# Altium footprint library lab2.PcbLib: 18 footprints (part 1 of 2)
Each footprint in its own frame and in the unit in brackets; x right, y up, seen from the top. Pads: shape width x height; smd on the part's side, far side on the other; paste and mask are expansions set on the pad; w line width, h text height; cw(c..) or ccw(c..) is an arc to the next point about the centre after c.
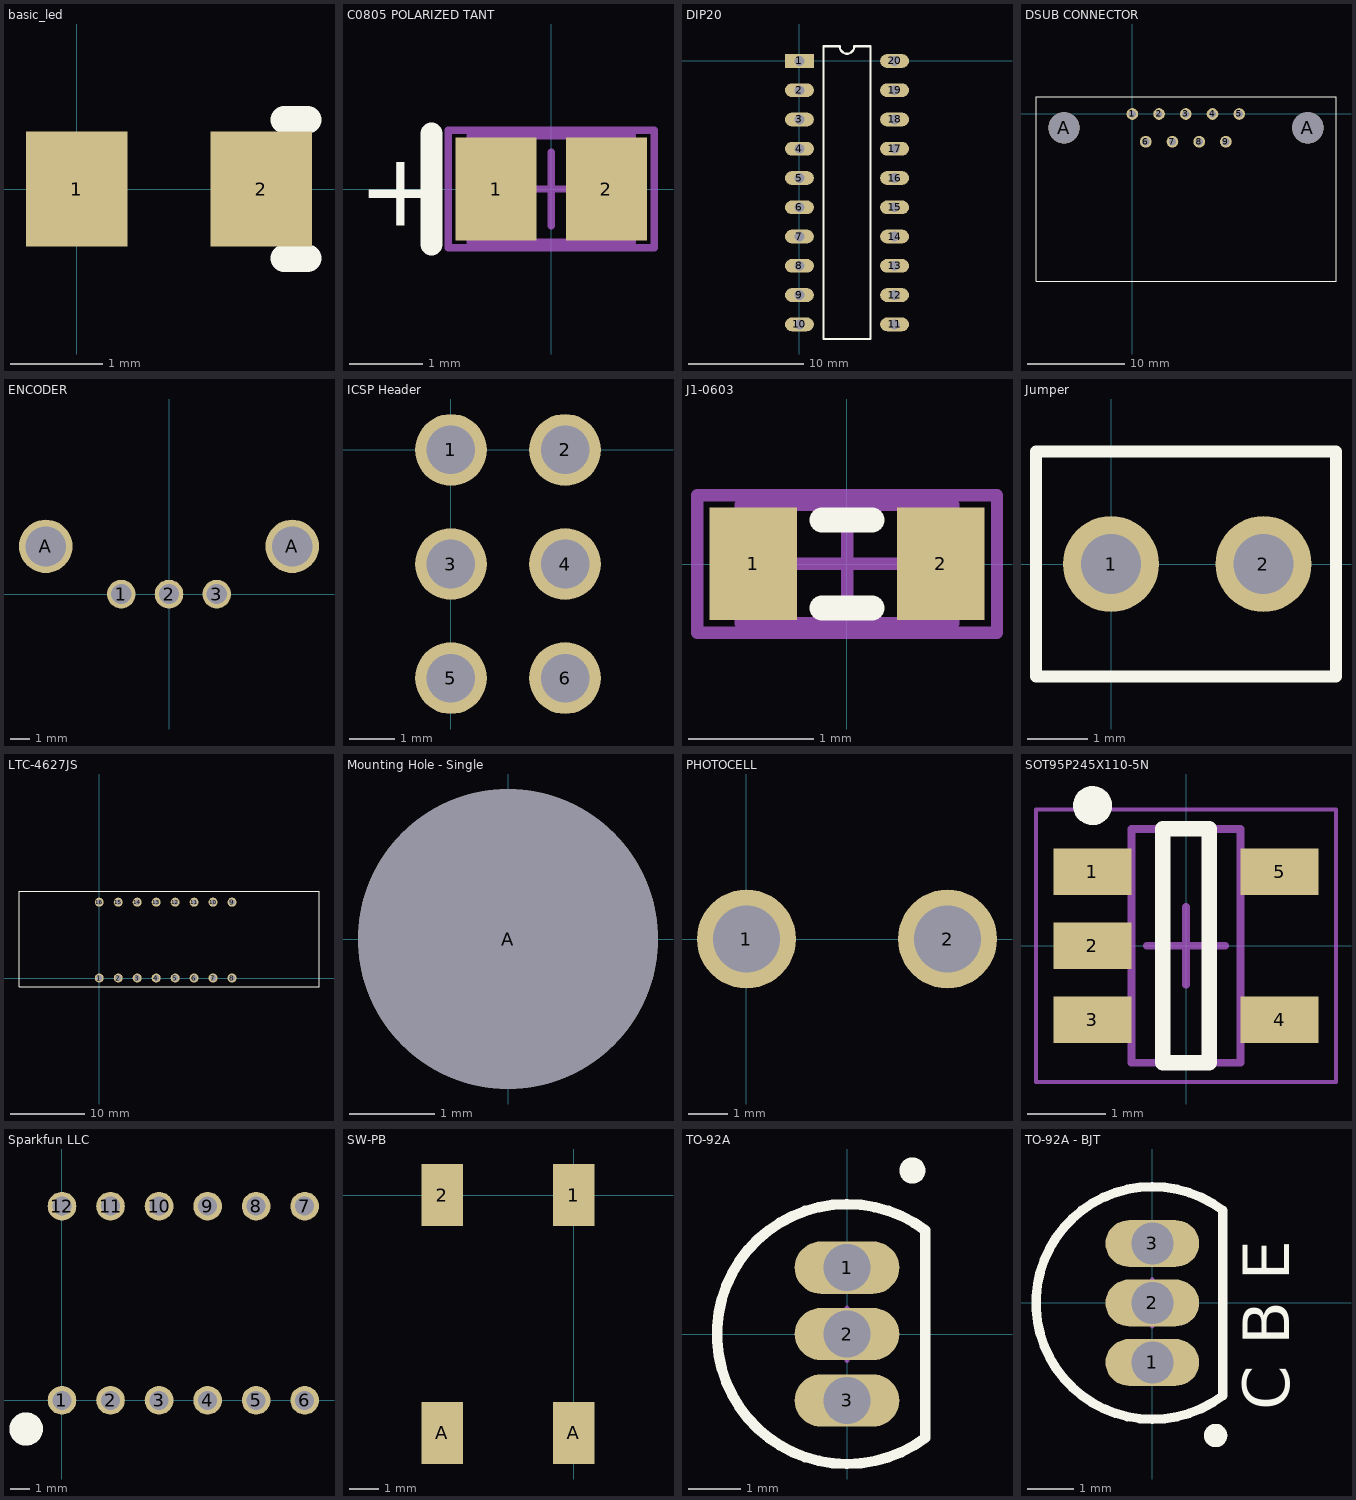
[diagram p0: the footprints below, top view; thin cyan lines are the x and y axes]

## basic_led [mm]
pads (2):
  rect 1.1x1.25 smd: 1(0,0) 2(2,0)
Top Overlay:
  lines w0.3: 2.25,-0.75 2.5,-0.75 ; 2.25,0.75 2.5,0.75
3D body "AP2012.STEP": height 1.1, standoff 0, extent 0,-0.625 2,0.625

## C0805 POLARIZED TANT [mm] "Chip Capacitor, Body 2.0x1.3mm, IPC High Density"
height 1.4
pads (2):
  rect 1.1x1.4 smd: 1(-0.75,0) 2(0.75,0)
Top Overlay:
  lines w0.3: -1.625,-0.75 -1.625,0.75
  text "+" at -2.625,-0.5 h1
Mechanical 13:
  lines w0.1: -1.1,-0.725 -1.1,0.725 1.1,0.725 1.1,-0.725 -1.1,-0.725
Mechanical 15:
  lines w0.1: -0.5,0 0.5,0 ; 0,-0.5 0,0.5 ; -1.4,-0.8 -1.4,0.8 1.4,0.8 1.4,-0.8 -1.4,-0.8
3D body: height 1.4, standoff 0, extent -1.1,-0.725 1.1,0.725

## DIP20 [mm]
pads (20):
  rect 2.5x1.2 hole 0.85: 1(0,0)
  oval 2.5x1.2 hole 0.85: 2(0,-2.54) 3(0,-5.08) 4(0,-7.62) 5(0,-10.16) 6(0,-12.7) 7(0,-15.24) 8(0,-17.78) 9(0,-20.32) 10(0,-22.86) 11(8.26,-22.86) 12(8.26,-20.32) 13(8.26,-17.78) 14(8.26,-15.24) 15(8.26,-12.7) 16(8.26,-10.16) 17(8.26,-7.62) 18(8.26,-5.08) 19(8.26,-2.54) 20(8.26,0)
Top Overlay:
  lines w0.2: 2.085,-24.13 2.085,1.27 3.495,1.27 ccw(c4.13,1.27) 4.765,1.27 6.175,1.27 6.175,-24.13 2.085,-24.13

## DSUB CONNECTOR [mm]
pads (11):
  round 1.2 hole 0.75: 1(0,0) 2(2.74,0) 3(5.48,0) 4(8.22,0) 5(10.96,0) 6(1.37,-2.84) 7(4.11,-2.84) 8(6.85,-2.84) 9(9.59,-2.84)
  round 3.2 hole 3.2: A(-7,-1.42) A(17.99,-1.42)
Top Overlay:
  lines w0.127: -9.875,-17.125 -9.875,1.75 20.875,1.75 20.875,-17.125 -9.875,-17.125
3D body "D09P33E4GV00LFC.stp": height 12.68, standoff -3.08, extent -9.905,-17.15 20.905,1.7

## ENCODER [mm]
pads (5):
  round 1.5 hole 1.05: 1(-2.5,0) 2(0,0) 3(2.5,0)
  round 2.8 hole 2.1: A(-6.45,2.5) A(6.45,2.5)
3D body "pec12r-2x17f-nxxxx.stp": height 3.4, standoff -17.2, extent -6.41,-14.875 6.41,5.025

## ICSP Header [mm]
pads (6):
  round 1.6 hole 1.08: 1(0,0) 2(2.54,0) 3(0,-2.54) 4(2.54,-2.54) 5(0,-5.08) 6(2.54,-5.08)
3D body "961206-6404-XX.stp": height 8, standoff -3.3, extent -1.25,-6.435 3.75,1.185

## J1-0603 [mm] "Chip Resistor, Body 1.6x0.8mm, IPC High Density"
height 0.9
pads (2):
  rect 0.7x0.9 smd: 1(-0.75,0) 2(0.75,0)
Top Overlay:
  lines w0.2: -0.2,-0.35 0.2,-0.35 ; -0.2,0.35 0.2,0.35
Mechanical 13:
  lines w0.1: -0.85,-0.475 -0.85,0.475 0.85,0.475 0.85,-0.475 -0.85,-0.475
Mechanical 15:
  lines w0.1: -0.475,0 0.475,0 ; 0,-0.475 0,0.475 ; -1.2,-0.55 -1.2,0.55 1.2,0.55 1.2,-0.55 -1.2,-0.55
3D body: height 0.9, standoff 0, extent -0.85,-0.475 0.85,0.475

## Jumper [mm]
pads (2):
  round 1.6 hole 1: 1(0,0) 2(2.54,0)
Top Overlay:
  lines w0.2: -1.25,-1.875 3.75,-1.875 3.75,1.875 -1.25,1.875 -1.25,-1.875

## LTC-4627JS [mm]
pads (16):
  round 1.2 hole 0.75: 1(0,0) 2(2.54,0) 3(5.08,0) 4(7.62,0) 5(10.16,0) 6(12.7,0) 7(15.24,0) 8(17.78,0) 9(17.78,10.16) 10(15.24,10.16) 11(12.7,10.16) 12(10.16,10.16) 13(7.62,10.16) 14(5.08,10.16) 15(2.54,10.16) 16(0,10.16)
Top Overlay:
  lines w0.127: -10.75,-1.175 -10.75,11.625 29.43,11.625 29.43,-1.175 -10.75,-1.175
3D body "4digit.step": height 7.73, standoff -3.42, extent -6.875,-2.75 23.125,11.25

## Mounting Hole - Single [mm]
pads (1):
  round 3.5 hole 3.5: A(0,0)

## PHOTOCELL [mm] "https://www.adafruit.com/products/161"
pads (2):
  round 2.5 hole 1.7: 1(0,0) 2(5.08,0)

## SOT95P245X110-5N [mm] "SOT23, 5-Leads, Body 2.90x2.45mm, Pitch 0.95mm, IPC Medium Density"
height 1.1
pads (5):
  rect 1x0.6 smd: 1(-1.2,0.95) 2(-1.2,0) 3(-1.2,-0.95) 4(1.2,-0.95) 5(1.2,0.95)
Top Overlay:
  circle w0.25: c-1.2,1.8 r0.125
  lines w0.2: -0.3,-1.5 0.3,-1.5 0.3,1.5 -0.3,1.5 -0.3,-1.5
Mechanical 13:
  lines w0.1: -0.7,-1.5 -0.7,1.5 0.7,1.5 0.7,-1.5 -0.7,-1.5
Mechanical 15:
  lines w0.05: -1.925,-1.75 -1.925,1.75 1.925,1.75 1.925,-1.75 -1.925,-1.75
  lines w0.1: -0.5,0 0.5,0 ; 0,-0.5 0,0.5
3D body: height 1.1, standoff 0.05, extent -0.7,-1.5 0.7,1.5

## Sparkfun LLC [mm]
height 2
pads (12):
  round 1.5 hole 1: 1(0,0) 2(2.54,0) 3(5.08,0) 4(7.62,0) 5(10.16,0) 6(12.7,0) 7(12.7,10.16) 8(10.16,10.16) 9(7.62,10.16) 10(5.08,10.16) 11(2.54,10.16) 12(0,10.16)
Top Overlay:
  circle w1: c-1.875,-1.5 r0.375

## SW-PB [mm]
pads (4):
  rect 1.4x2.1 smd: 1(0,0) 2(-4.46,0) A(-4.46,-8.05) A(0,-8.05)
3D body "c-4-1437565-1-s-3d.stp": height 5.05, standoff -0.03, extent -5.125,-9 0.875,1

## TO-92A [mm] "TO, Flat Index; 3 In-Line, Axial Leads; Body Dia. 4.5mm; Leads 0.51 x 0.48 mm (max)"
height 6.86
pads (3):
  oval 2x1 hole 0.9: 1(0,1.27) 2(0,0) 3(0,-1.27)
Top Overlay:
  circle w0.25: c1.25,3.125 r0.125
  lines w0.2: 1.5,-1.98 cw(c0,0) 1.5,1.98 1.5,-1.98
Mechanical 13:
  lines w0.1: 1.5,-1.98 cw(c0,0) 1.5,1.98 1.5,-1.98
Mechanical 15:
  lines w0.1: -0.5,0 0.5,0 ; 0,-0.5 0,0.5
3D body: height 6.86, standoff 2.2, extent -2.485,-2.495 1.501,2.495

## TO-92A - BJT [mm] "TO, Flat Index; 3 In-Line, Axial Leads; Body Dia. 4.5mm; Leads 0.51 x 0.48 mm (max)"
height 6.86
pads (3):
  oval 2x1 hole 0.9: 1(0,-1.27) 2(0,0) 3(0,1.27)
Top Overlay:
  circle w0.25: c1.35,-2.83 r0.125
  lines w0.2: 1.5,-1.98 cw(c0,0) 1.5,1.98 1.5,-1.98
  text "C B E" at 2.921,-2.286 h1
Mechanical 13:
  lines w0.1: 1.5,-1.98 cw(c0,0) 1.5,1.98 1.5,-1.98
Mechanical 15:
  lines w0.1: -0.5,0 0.5,0 ; 0,-0.5 0,0.5
3D body: height 6.86, standoff 2.2, extent -2.485,-2.495 1.501,2.495